# EAGLE library part 1X06 (library PiB_connectors)
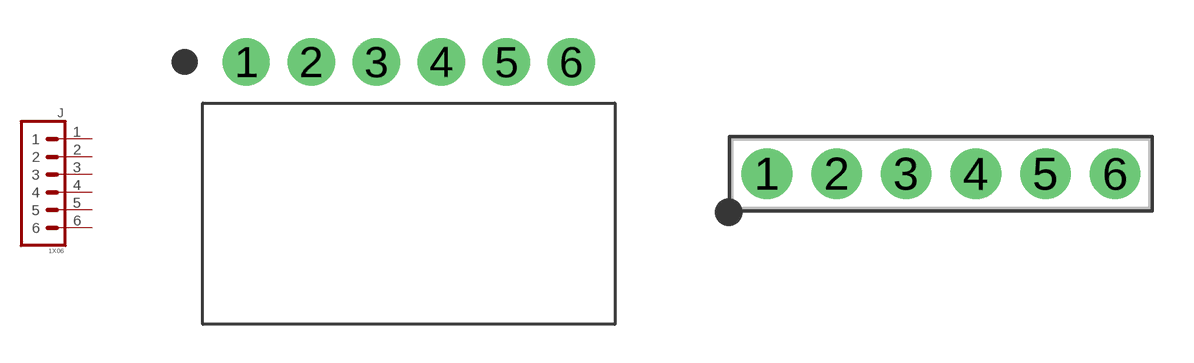
[diagram p1: symbol with the pads of HDRRAR6W60P254_1X6_1574X850X274B; footprints HDRRAR6W60P254_1X6_1574X850X274B, HDRV6W64P254_1X6_1524X254X838B]

Designator prefix J

## 1X06_PTH_RA_FEMALE_2.54MM (DATASHEET: http://www.sullinscorp.com/drawings/78_P(N)PxCxx1LGBN-RC,_10493-G.pdf; DIST: Digikey; DISTLINK: https://www.digikey.com/products/en?keywords=PPTC061LGBN-RC; DISTPN: S5442-ND; MFR: Sullins Connector Solutions; MPN: PPTC061LGBN-RC; VALUE: PTH RA FEMALE)  [HDRRAR6W60P254_1X6_1574X850X274B]
1  1  pas
2  2  pas
3  3  pas
4  4  pas
5  5  pas
6  6  pas

## 1X06_PTH_VERT_MALE_2.54MM (DATASHEET: https://drawings-pdf.s3.amazonaws.com/C10436.pdf; DIST: Digikey; DISTLINK: https://www.digikey.com/products/en?keywords=PEC06SAAN; DISTPN: S1012E-06-ND; MFR: Sullins Connector Solutions; MPN: PEC06SAAN; VALUE: PTH VERT MALE)  [HDRV6W64P254_1X6_1524X254X838B]
Pads as for HDRRAR6W60P254_1X6_1574X850X274B

## 1X06_PTH_VERT_FEMALE_2.54MM (DATASHEET: https://drawings-pdf.s3.amazonaws.com/10492.pdf; DIST: Digikey; DISTLINK: https://www.digikey.com/products/en?keywords=PPTC061LFBN-RC; DISTPN: S7004-ND; MFR: Sullins Connector Solutions; MPN: PPTC061LFBN-RC; VALUE: PTH VERT FEMALE)  [HDRVR6W64P254_1X6_1574X254X850B]
Pads as for HDRRAR6W60P254_1X6_1574X850X274B

## 1X06PTH_RA_MALE_2.54MM (DATASHEET: https://s3.amazonaws.com/catalogspreads-pdf/PAGE112-113%20.100%20MALE%20HDR.pdf; DIST: Digikey; DISTLINK: https://www.digikey.com/products/en?keywords=S1112E-06-ND; DISTPN: S1112E-06-ND; MFR: Sullins Connector Solutions; MPN: PEC06SBAN; VALUE: PTH RA MALE)  [HDRRA6W64P254_1X6_1524X254X254B]
Pads as for HDRRAR6W60P254_1X6_1574X850X274B

## Footprint HDRRAR6W60P254_1X6_1574X850X274B (pad centres in mm)
Single-row, 6-pin Receptacle Header (Female) Right Angle, 2.54 mm (0.10 in) col pitch, 8.50 mm insulator length, 15.74 X 8.50 X 2.74 mm body Single-row (1X6), 6-pin Receptacle Header (Female) Right Angle package with 2.54 mm (0.10 in) col pitch, 0.60 mm lead width, 3.15 mm tail length and 8.50 mm insulator length with body size 15.74 X 8.50 X 2.74 mm, pin pattern - clockwise from top left
drill 1 pad 1.85: 1 0,0; 2 2.54,0; 3 5.08,0; 4 7.62,0; 5 10.16,0; 6 12.7,0

## Footprint HDRV6W64P254_1X6_1524X254X838B (pad centres in mm)
Single-row, 6-pin Pin Header (Male) Straight, 2.54 mm (0.10 in) col pitch, 5.84 mm mating length, 15.24 X 2.54 X 8.38 mm body Single-row (1X6), 6-pin Pin Header (Male) Straight package with 2.54 mm (0.10 in) col pitch, 0.64 mm lead width, 3.05 mm tail length and 5.84 mm mating length with overall size 15.24 X 2.54 X 8.38 mm, pin pattern - clockwise from top left
drill 1 pad 1.85: 1 -6.35,0; 2 -3.81,0; 3 -1.27,0; 4 1.27,0; 5 3.81,0; 6 6.35,0

## Footprint HDRVR6W64P254_1X6_1574X254X850B (pad centres in mm)
Single-row, 6-pin Receptacle Header (Female) Straight, 2.54 mm (0.10 in) col pitch, 8.50 mm insulator length, 15.74 X 2.54 X 8.50 mm body Single-row (1X6), 6-pin Receptacle Header (Female) Straight package with 2.54 mm (0.10 in) col pitch, 0.64 mm lead width, 3.20 mm tail length and 8.50 mm insulator length with overall size 15.74 X 2.54 X 8.50 mm, pin pattern - clockwise from top left
drill 1 pad 1.85: 1 0,0; 2 2.54,0; 3 5.08,0; 4 7.62,0; 5 10.16,0; 6 12.7,0

## Footprint HDRRA6W64P254_1X6_1524X254X254B (pad centres in mm)
Single-row, 6-pin Pin Header (Male) Right Angle, 2.54 mm (0.10 in) col pitch, 5.84 mm mating length, 15.24 X 2.54 X 2.54 mm body Single-row (1X6), 6-pin Pin Header (Male) Right Angle package with 2.54 mm (0.10 in) col pitch, 0.64 mm lead width, 2.54 mm tail length and 5.84 mm mating length with body size 15.24 X 2.54 X 2.54 mm, pin pattern - zigzag from bottom left
drill 1 pad 1.85: 1 -6.35,0; 2 -3.81,0; 3 -1.27,0; 4 1.27,0; 5 3.81,0; 6 6.35,0